# Altium schematic symbol library Current Sensors.SchLib: 2 symbols
Pins are listed as number, name and electrical type; pins without a type are passive.

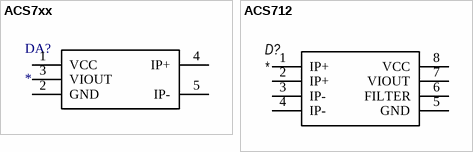
[diagram p0: symbols ACS7xx to ACS712]

## ACS7xx
designator DA?
pins: 1 VCC, 2 GND, 3 VIOUT, 4 IP+, 5 IP-

## ACS712
designator D?
pins: 1 IP+, 2 IP+, 3 IP-, 4 IP-, 5 GND, 6 FILTER, 7 VIOUT, 8 VCC